# Altium schematic symbol library CON_JST_.SchLib: 6 symbols
Pins are listed as number, name and electrical type; pins without a type are passive.

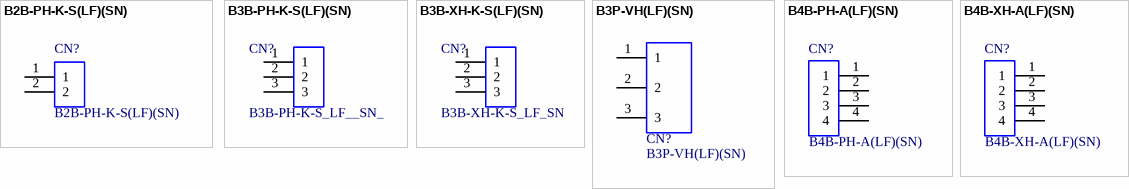
[diagram p0: symbols B2B-PH-K-S(LF)(SN) to B4B-XH-A(LF)(SN)]

## B2B-PH-K-S(LF)(SN)
designator CN?
PH Series 2 Position 2 mm Pitch Through Hole Top Entry Shrouded Header; MP: B2B-PH-K-S_LF__SN_; MF: JST Sales; Package: None; Availability: Unavailable; SnapEDA_Link: https://www.snapeda.com/parts/B2B-PH-K-S%28LF%29%28SN%29/JST%20Sales%20America%20Inc./view-part/?ref=snap; Price: None; Value: *
footprint JST_B2B-PH-K-S(LF)(SN)
pins: 1, 2

## B3B-PH-K-S(LF)(SN)
designator CN?, comment B3B-PH-K-S_LF__SN_
PH Series 3 Position 2 mm Pitch Through Hole Top Entry Shrouded Header; MF: JST Sales; MP: B3B-PH-K-S_LF__SN_; Package: None; Availability: Unavailable; SnapEDA_Link: https://www.snapeda.com/parts/B2B-PH-K-S%28LF%29%28SN%29/JST%20Sales%20America%20Inc./view-part/?ref=snap; Price: None; Value: *
footprint JST_B3B-PH-K-S(LF)(SN)
pins: 1, 2, 3

## B3B-XH-K-S(LF)(SN)
designator CN?, comment B3B-XH-K-S_LF_SN
XH Series 3 Position 2.5mm Pitch Through Hole Top Entry Shrouded Header; MF: JST Sales; MP: B3B-XH-K-S_LF_SN; Package: None; Availability: Unavailable; SnapEDA_Link: https://www.snapeda.com/parts/B2B-PH-K-S%28LF%29%28SN%29/JST%20Sales%20America%20Inc./view-part/?ref=snap; Price: None; Value: *
footprint JST_B3B-XH-A(LF)(SN)
pins: 1, 2, 3

## B3P-VH(LF)(SN)
designator CN?  (mechanical)
VH Series 3 Position 3.96 mm Pitch Through Hole Crimp Locking Header; MP: B3P-VH_LF__SN_; MF: JST Sales; SnapEDA_Link: https://www.snapeda.com/parts/B3P-VH%28LF%29%28SN%29/JST%20Sales%20America%20Inc./view-part/?ref=snap; Availability: Unavailable; Price: None; Package: FakePackage u; Value: *
footprint JST_B3P-VH
pins: 1, 2, 3

## B4B-PH-A(LF)(SN)
designator CN?
PH Series 4 Position 2.mm Pitch Through Hole Crimp Top Entry Shrouded Header; MF: JST Sales; MP: B4B-PH-A(LF)(SN); Package: None; Availability: Unavailable; SnapEDA_Link: https://www.snapeda.com/parts/B4B-XH-A%28LF%29%28SN%29/JST%20Sales%20America%20Inc./view-part/?ref=snap; Price: None; Value: *
footprint JST_B4B-PH-K-S(LF)(SN)
pins: 1, 2, 3, 4

## B4B-XH-A(LF)(SN)
designator CN?
XH Series 4 Position 2.5 mm Pitch Through Hole Crimp Top Entry Shrouded Header; MP: B4B-XH-A_LF__SN_; MF: JST Sales; Package: None; Availability: Unavailable; SnapEDA_Link: https://www.snapeda.com/parts/B4B-XH-A%28LF%29%28SN%29/JST%20Sales%20America%20Inc./view-part/?ref=snap; Price: None; Value: *
footprint JST_B4B-XH-A(LF)(SN)
pins: 1, 2, 3, 4